# Altium schematic symbol library Schlib1.SchLib: 1 symbol
Pins are listed as number, name and electrical type; pins without a type are passive.

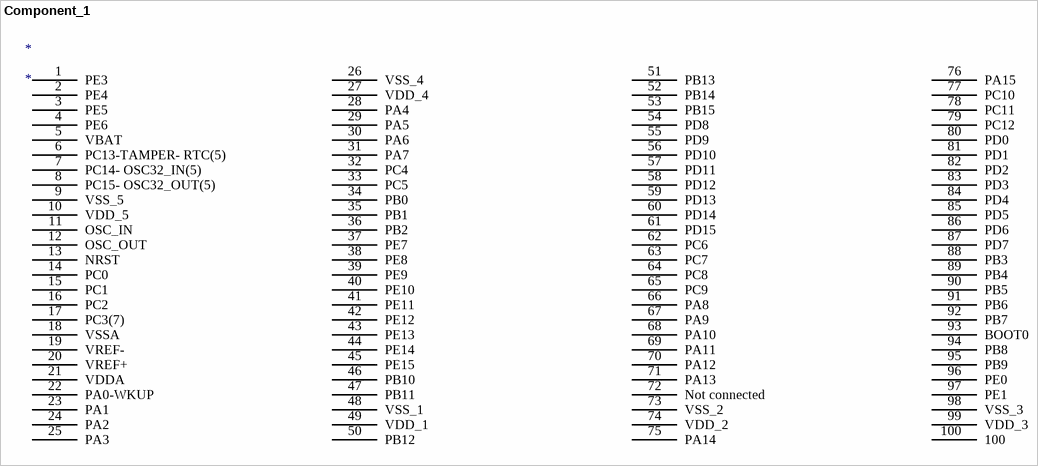
[diagram p0: symbol Component_1]

## Component_1
designator *
pins: 1 PE3, 2 PE4, 3 PE5, 4 PE6, 5 VBAT, 6 PC13-TAMPER- RTC(5), 7 PC14- OSC32_IN(5), 8 PC15- OSC32_OUT(5), 9 VSS_5, 10 VDD_5, 11 OSC_IN, 12 OSC_OUT, 13 NRST, 14 PC0, 15 PC1, 16 PC2, 17 PC3(7), 18 VSSA, 19 VREF-, 20 VREF+, 21 VDDA, 22 PA0-WKUP, 23 PA1, 24 PA2, 25 PA3, 26 VSS_4, 27 VDD_4, 28 PA4, 29 PA5, 30 PA6, 31 PA7, 32 PC4, 33 PC5, 34 PB0, 35 PB1, 36 PB2, 37 PE7, 38 PE8, 39 PE9, 40 PE10, 41 PE11, 42 PE12, 43 PE13, 44 PE14, 45 PE15, 46 PB10, 47 PB11, 48 VSS_1, 49 VDD_1, 50 PB12, 51 PB13, 52 PB14, 53 PB15, 54 PD8, 55 PD9, 56 PD10, 57 PD11, 58 PD12, 59 PD13, 60 PD14, 61 PD15, 62 PC6, 63 PC7, 64 PC8, 65 PC9, 66 PA8, 67 PA9, 68 PA10, 69 PA11, 70 PA12, 71 PA13, 72 Not connected, 73 VSS_2, 74 VDD_2, 75 PA14, 76 PA15, 77 PC10, 78 PC11, 79 PC12, 80 PD0, 81 PD1, 82 PD2, 83 PD3, 84 PD4, 85 PD5, 86 PD6, 87 PD7, 88 PB3, 89 PB4, 90 PB5, 91 PB6, 92 PB7, 93 BOOT0, 94 PB8, 95 PB9, 96 PE0, 97 PE1, 98 VSS_3, 99 VDD_3, 100